# EAGLE library part MIC2544 (library bschulz)
MIC2544/48 - Hight Side Load Switch, with Adjustable Current Limit Characteristics: Vin: 2.7v ~ 5.5v IQ: 1μA (OFF) RDS(ON): 80mΩ (Vin = 5v) Output Current: 1.5A (Max, limit adj) Operating Temperature: -40°C to 85°C Digikey: 576-1738-5-ND (Active High, MSOP) <https://www.digikey.com/product-detail/en/microchip-technology/MIC2544-1YMM/576-1738-5-ND/1028557> 576-1739-5-ND (Active Low, MSOP) <https://www.digikey.com/product-detail/en/microchip-technology/MIC2544-2YMM/576-1739-5-ND/1028565>
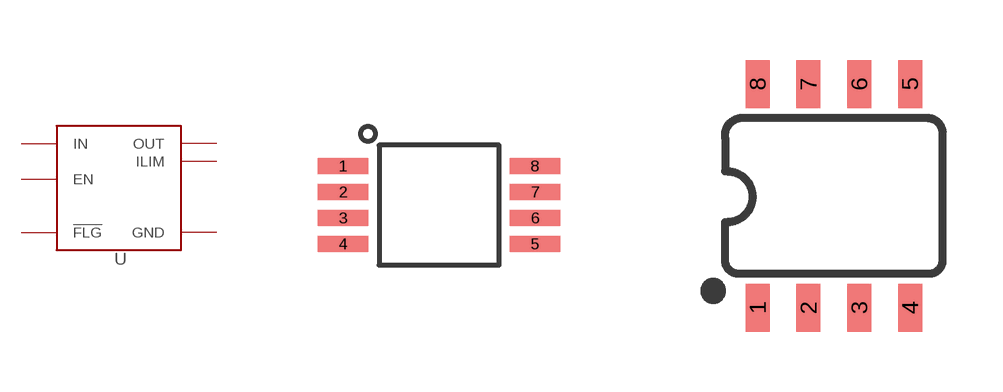
[diagram p84: symbol with the pads of MSOP_8; footprints MSOP_8, SO08]

Designator prefix U

## MIC2544MSOP (DIGIKEY: 576-1738-5-ND; DISP: MIC2544; MF: Microchip; MPN: MIC2544-1YMM)  [MSOP_8]
1  EN  in
2  !FLG  oc
3  GND  pwr
5  ILIM  in
6  OUT  pwr
7  IN  pwr
8  OUT  pwr

## MIC2544SOIC (DIGIKEY: MIC2544-1YM-CT-ND; DISP: MIC2544; MF: Microchip; MPN: MIC2544-1YM-TR)  [SO08]
1  EN  in
2  !FLG  oc
3  GND  pwr
4  ILIM  in
6  OUT  pwr
7  IN  pwr
8  OUT  pwr

## Footprint MSOP_8 (pad centres in mm)
MSOP, 3x3mm, o.65mm pitch
smd 1.26 x 0.4: 1 -2.4,0.975; 2 -2.4,0.325; 3 -2.4,-0.325; 4 -2.4,-0.975; 5 2.4,-0.975; 6 2.4,-0.325; 7 2.4,0.325; 8 2.4,0.975

## Footprint SO08 (pad centres in mm)
SOIC, 0.15 inch width
smd 0.6 x 1.2: 1 -1.905,-2.8; 2 -0.635,-2.8; 3 0.635,-2.8; 4 1.905,-2.8; 5 1.905,2.8; 6 0.635,2.8; 7 -0.635,2.8; 8 -1.905,2.8